# Altium footprint library Altium LED D5mm TH.PcbLib: 6 footprints
Each footprint in its own frame and in the unit in brackets; x right, y up, seen from the top. Pads: shape width x height; smd on the part's side, far side on the other; paste and mask are expansions set on the pad; w line width, h text height; cw(c..) or ccw(c..) is an arc to the next point about the centre after c.
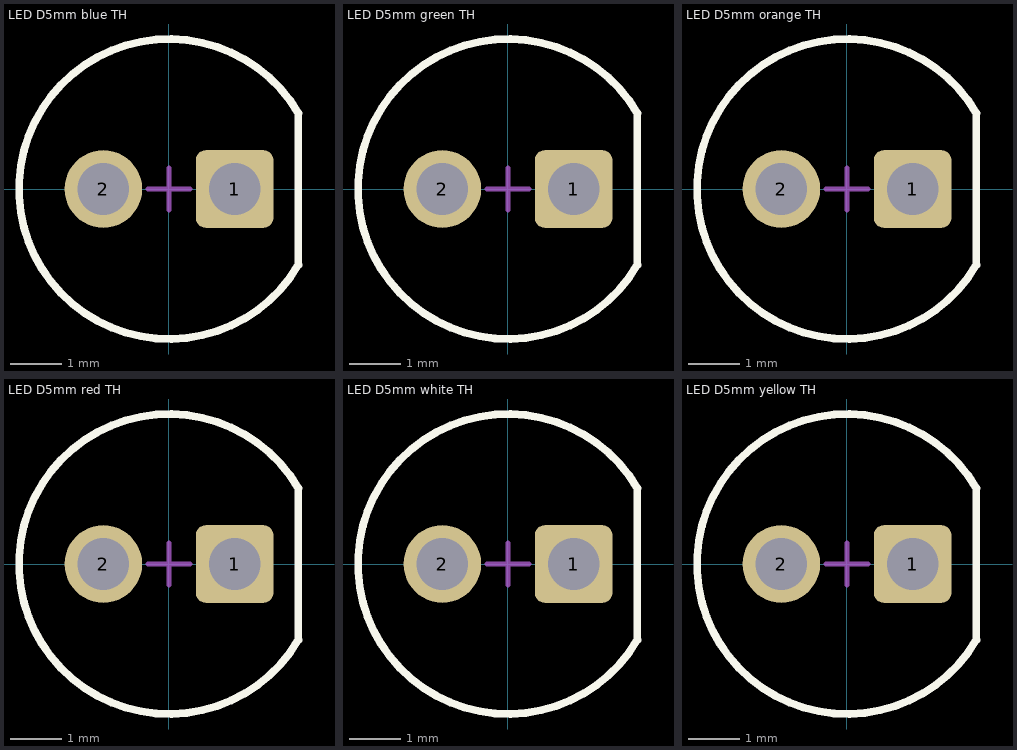
[diagram p0: the footprints below, top view; thin cyan lines are the x and y axes]

## LED D5mm blue TH [mm] "THT Mono-color Round Color LED, Dia 5mm, 2-leads"
height 9.2
pads (2):
  rrect25% 1.5x1.5 hole 1: 1(1.27,0)
  round 1.5 hole 1: 2(-1.27,0)
Top Overlay:
  lines w0.15: 2.5,-1.467 2.5,1.467 ; 2.501,-1.467 cw(c0,0) 2.502,1.467
Mechanical 13:
  lines w0.1: 2.5,-1.467 2.5,1.467 ; 2.501,-1.467 cw(c0,0) 2.502,1.467
Mechanical 15:
  lines w0.1: -0.4,0 0.4,0 ; 0,-0.4 0,0.4
3D body: height 0.25, standoff 0, extent 0,0 0,0
3D body "LED 5mm blue TH.stp": height 9.2, standoff -2.95, extent -2.95,-2.949 2.45,2.949

## LED D5mm green TH [mm] "THT Mono-color Round Color LED, Dia 5mm, 2-leads"
height 9.2
pads (2):
  rrect25% 1.5x1.5 hole 1: 1(1.27,0)
  round 1.5 hole 1: 2(-1.27,0)
Top Overlay:
  lines w0.15: 2.5,-1.467 2.5,1.467 ; 2.501,-1.467 cw(c0,0) 2.502,1.467
Mechanical 13:
  lines w0.1: 2.5,-1.467 2.5,1.467 ; 2.501,-1.467 cw(c0,0) 2.502,1.467
Mechanical 15:
  lines w0.1: -0.4,0 0.4,0 ; 0,-0.4 0,0.4
3D body: height 0.25, standoff 0, extent 0,0 0,0
3D body "LED 5mm green TH.stp": height 9.2, standoff -2.95, extent -2.95,-2.949 2.45,2.949

## LED D5mm orange TH [mm] "THT Mono-color Round Color LED, Dia 5mm, 2-leads"
height 9.2
pads (2):
  rrect25% 1.5x1.5 hole 1: 1(1.27,0)
  round 1.5 hole 1: 2(-1.27,0)
Top Overlay:
  lines w0.15: 2.5,-1.467 2.5,1.467 ; 2.501,-1.467 cw(c0,0) 2.502,1.467
Mechanical 13:
  lines w0.1: 2.5,-1.467 2.5,1.467 ; 2.501,-1.467 cw(c0,0) 2.502,1.467
Mechanical 15:
  lines w0.1: -0.4,0 0.4,0 ; 0,-0.4 0,0.4
3D body: height 0.25, standoff 0, extent 0,0 0,0
3D body "LED 5mm orange TH.stp": height 9.2, standoff -2.95, extent -2.95,-2.949 2.45,2.949

## LED D5mm red TH [mm] "THT Mono-color Round Color LED, Dia 5mm, 2-leads"
height 9.2
pads (2):
  rrect25% 1.5x1.5 hole 1: 1(1.27,0)
  round 1.5 hole 1: 2(-1.27,0)
Top Overlay:
  lines w0.15: 2.5,-1.467 2.5,1.467 ; 2.501,-1.467 cw(c0,0) 2.502,1.467
Mechanical 13:
  lines w0.1: 2.5,-1.467 2.5,1.467 ; 2.501,-1.467 cw(c0,0) 2.502,1.467
Mechanical 15:
  lines w0.1: -0.4,0 0.4,0 ; 0,-0.4 0,0.4
3D body: height 0.25, standoff 0, extent 0,0 0,0
3D body "LED 5mm red TH.stp": height 9.2, standoff -2.95, extent -2.95,-2.949 2.45,2.949

## LED D5mm white TH [mm] "THT Mono-color Round Color LED, Dia 5mm, 2-leads"
height 9.2
pads (2):
  rrect25% 1.5x1.5 hole 1: 1(1.27,0)
  round 1.5 hole 1: 2(-1.27,0)
Top Overlay:
  lines w0.15: 2.5,-1.467 2.5,1.467 ; 2.501,-1.467 cw(c0,0) 2.502,1.467
Mechanical 13:
  lines w0.1: 2.5,-1.467 2.5,1.467 ; 2.501,-1.467 cw(c0,0) 2.502,1.467
Mechanical 15:
  lines w0.1: -0.4,0 0.4,0 ; 0,-0.4 0,0.4
3D body: height 0.25, standoff 0, extent 0,0 0,0
3D body "LED 5mm white TH.stp": height 9.2, standoff -2.95, extent -2.95,-2.949 2.45,2.949

## LED D5mm yellow TH [mm] "THT Mono-color Round Color LED, Dia 5mm, 2-leads"
height 9.2
pads (2):
  rrect25% 1.5x1.5 hole 1: 1(1.27,0)
  round 1.5 hole 1: 2(-1.27,0)
Top Overlay:
  lines w0.15: 2.5,-1.467 2.5,1.467 ; 2.501,-1.467 cw(c0,0) 2.502,1.467
Mechanical 13:
  lines w0.1: 2.5,-1.467 2.5,1.467 ; 2.501,-1.467 cw(c0,0) 2.502,1.467
Mechanical 15:
  lines w0.1: -0.4,0 0.4,0 ; 0,-0.4 0,0.4
3D body "LED 5mm yellow TH.stp": height 9.2, standoff -2.95, extent -2.95,-2.949 2.45,2.949
3D body: height 0.25, standoff 0, extent 0,0 0,0